# Altium schematic symbol library Erico_Ignitor.SCHLIB: 88 symbols (part 1 of 2)
Pins are listed as number, name and electrical type; pins without a type are passive.

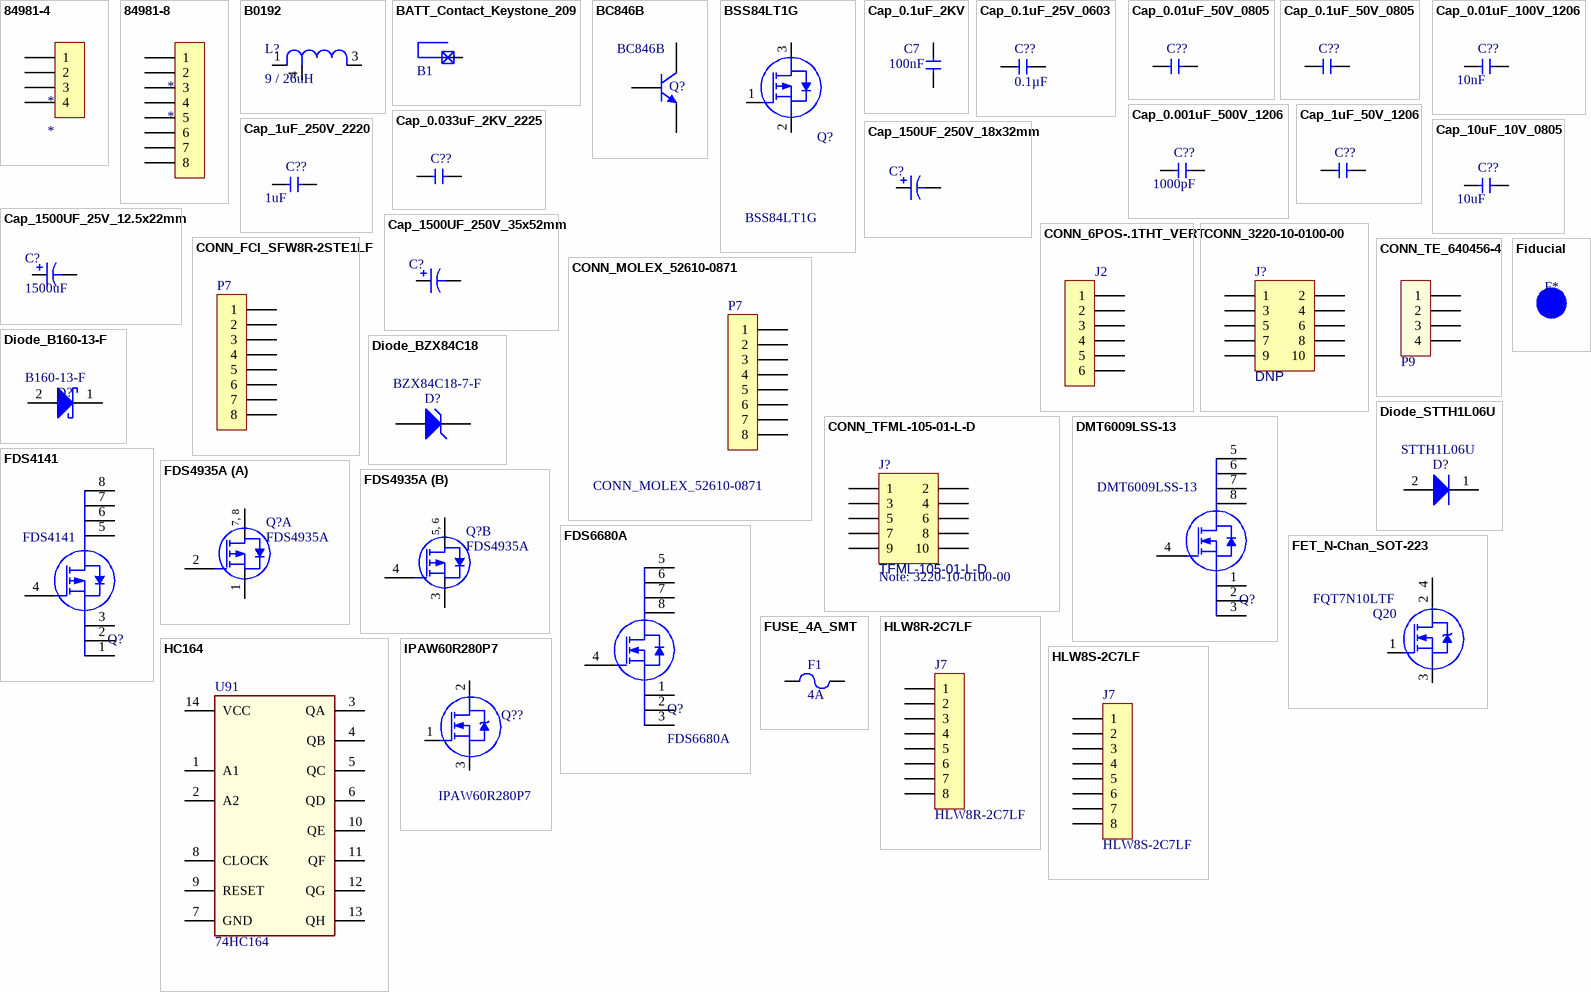
[diagram p0: symbols 84981-4 to IPAW60R280P7]

## 84981-4
designator *
footprint 84981-4
pins: 1, 2, 3, 4

## 84981-8
designator *
Supplier 1: Digi-Key; Supplier Part Number 1: A100245CT-ND
footprint 84981-8 (FFC CONN SMT, H, NON-ZIF)
pins: 1, 2, 3, 4, 5, 6, 7, 8

## B0192
designator L?, comment 9 / 26uH
INDUCTOR  9/26UH 5.3A; Manufacturer: Coilcraft; Manufacturer P/N: B0192-B; Shielding: Unshielded; Number of Pins: 4; Inductance: 9/26uh; Composition: Wirewound; RMS Current (Irms): 5.3A; ComponentLink1Description: Datasheet
footprint XFMR_Coilcraft_B0192-B (Common Mode Line Choke, 4 Pin)
pins: 1, 3, 4

## BATT_Contact_Keystone_209
designator B1, comment BATT CONTACT  (value not drawn)  (no BOM)
BATT_Contact_Keystone_209; Manufacturer: Keystone Electronics; Manufacturer P/N: 209; Body Plating: Nickel; Body Material: Steel; Voltage Rating: 0uV; Number of Batteries: 1; Insulation: Non-Insulated; Material Thickness: 0.012inch; Supplier 1: Digi-Key; Supplier Part Number 1: 36-209-ND; Mount: Snap in; Case/Package: Molded; Contact Plating: Nickel,Tin; Contact Material: Steel; Material: Brass,Steel; Package Quantity: 100; Termination: Solder; Voltage Rating (DC): 0uV; Length: 7.9mm; Height: 0.449inch; Depth: 11.4mm; Thickness: 0.012inch; REACH SVHC: No SVHC; Lead Free: Lead Free; ComponentLink2URL: http://www.keyelco.com/userAssets/file/M60-2p12.pdf; ComponentLink2Description: http://www.keyelco.com/userAssets/file/M60-2p12.pdf
footprint BATTERY CONTACT KEYSTONE 209 (BATTERY CONTACT 209)
pins: 1 Test

## BC846B
designator Q?
TRAN NPN 100MA 65V; Manufacturer: NXP Semiconductors; Vce Saturation (Max) @ Ib, Ic: 400mV @ 5mA, 100mA; DC Current Gain (hFE) (Min) @ Ic, Vce: 200 @ 2mA, 5V; Power - Max: 250mW; Frequency - Transition: 100MHz; Supplier 1: Digi-Key; Supplier Part Number 1: 568-1632-1-ND; RoHS: RoHS Compliant; Transistor Type: NPN; Current - Collector (Ic) (Max): 100mA; Voltage - Collector Emitter Breakdown (Max): 65V; Current - Collector Cutoff (Max): -; Package / Case: TO-236-3, SC-59, SOT-23-3; ComponentLink1URL: http://media.digikey.com/pdf/Data%20Sheets/NXP%20PDFs/BC846,%20BC546%20Series.pdf; ComponentLink1Description: Datasheet; Supplier 2: Digi-Key; Supplier Part Number 2: 568-1632-2-ND; Manufacturer P/N: BC846B
footprint SOT23 (SOT23, 3-Leads, Body 2.9x1.3mm, Pitch 0.95mm, Lead Span 2.5mm, IPC Med Density)
pins: 1 B, 2 E, 3 C

## BSS84LT1G
designator Q?
MOSFET P-CH 50V 130mA SOT-23; Manufacturer: ON Semiconductor; Manufacturer P/N: BSS84LT1-G; Rise Time: 1ns; Rds On Max: 10R; Input Capacitance: 30pF; Max Power Dissipation: 225mW; Turn-Off Delay Time: 16ns; Turn-On Delay Time: 3.6ns; Gate to Source Voltage (Vgs): 20V; Nominal Vgs: 2V; Threshold Voltage: -2V; Element Configuration: Single; Voltage Rating (DC): -50V; Current Rating: -130mA; Supplier 1: Digi-Key; Supplier Part Number 1: BSS84LT1GOSCT-ND; Case/Package: SOT-23-3; Number of Pins: 3; Contact Plating: Matte,Tin; Min Operating Temperature: -55°C; Max Operating Temperature: 150°C; Drain to Source Voltage (Vdss): 50V; Continuous Drain Current (ID): 130mA; Fall Time: 1ns; Power Dissipation: 225mW; Drain to Source Breakdown Voltage: 50V; Drain to Source Resistance: 10R; On-State Resistance: 10R; Radiation Hardening: No; Lead Free: Lead Free; REACH SVHC: No SVHC; Halogen Free: Halogen Free; ComponentLink3URL: http://www.onsemi.com/pub/Collateral/BSS84LT1-D.PDF; ComponentLink3Description: Datasheet
footprint SOT23 (SOT23, 3-Leads, Body 2.9x1.3mm, Pitch 0.95mm, Lead Span 2.5mm, IPC Med Density)
pins: 1, 2, 3

## Cap_0.1uF_2KV
designator C7, comment Capacitance: 100nF  (hidden comment: 0.1uF)
CAP CER 0.1UF 2KV; Manufacturer: Vishay; Manufacturer P/N: 565R20GAP10; Tolerance: 20%; Dielectric: Y5V; Lead/Base Style: Formed Leads; Lead Diameter: 0.64mm; Supplier 1: Digi-Key; Supplier Part Number 1: 565R20GAP10-ND; Mount: Through Hole; Case/Package: Radial; Contact Plating: Tin; Min Operating Temperature: -25°C; Max Operating Temperature: 105°C; Voltage Rating (DC): 2kV; Package Quantity: 50; Voltage Rating: 2kV; Termination: Radial; Composition: Ceramic; Lead Pitch: 9.5mm; Height - Seated (Max): 1.138inch; Depth: 6.1mm; Radiation Hardening: No; Lead Free: Lead Free; ComponentLink1URL: https://www.verical.com/server-webapp/html/getDatasheet?partID=324619; ComponentLink1Description: https://www.verical.com/server-webapp/html/getDatasheet?partID=324619; ComponentLink2URL: http://www.mouser.com/ds/2/427/564r565r-239688.pdf; ComponentLink2Description: http://www.mouser.com/ds/2/427/564r565r-239688.pdf
footprint CAPR9500P2413 (Capacitor, Radial, 24.13mm D, 9.5mm pin pitch)
pins: 1, 2

## Cap_0.1uF_25V_0603
designator C??, comment Capacitance: 0.1µF  (hidden comment: 0.1uF)
CAP CER 0.1UF 25V 10% X7R 0603; Manufacturer P/N: GRM188R71E104KA01D; Manufacturer: Murata Electronics North America; Supplier 1: Digi-Key; Supplier Part Number 1: 490-1524-1-ND; RoHS: RoHS Compliant; Voltage - Rated: 25V; Tolerance: ±10%; Temperature Coefficient: X7R; Operating Temperature: -55°C ~ 125°C; Package / Case: 0603 (1608 Metric); ComponentLink1URL: http://psearch.murata.com/capacitor/product/GRM188R71E104KA01#.pdf; ComponentLink1Description: Datasheet; Supplier 2: Digi-Key; Supplier Part Number 2: 490-1524-2-ND
footprint CAPC1608N (Chip Capacitor Body 1.6 x 0.8 mm (LxW typ))
pins: 1, 2

## Cap_0.01uF_50V_0805
designator C??, comment 0.01uF  (value not drawn)
CAP CER 0.01UF 50V; Manufacturer: KEMET; Manufacturer P/N: C0805C103K5RAC-TU; Dielectric Material: Ceramic; Capacitance: 10nF; Tolerance: 10%; Dielectric: X7R; Supplier 1: Digi-Key; Supplier Part Number 1: 399-1158-6-ND; Mount: PCB,Surface Mount; Case/Package: 0805; Number of Pins: 2; Case Code (Metric): 2012; Case Code (Imperial): 0805; Min Operating Temperature: -55°C; Max Operating Temperature: 125°C; Voltage Rating (DC): 50V; Voltage Rating: 50V; Package Quantity: 1; Termination: SMD/SMT; Voltage: 50V; Length: 2mm; Height: 0.78mm; Width: 0.049inch; Lead Pitch: 0.75mm; Depth: 1.25mm; Thickness: 0.035inch; Radiation Hardening: No; REACH SVHC: No SVHC; ComponentLink1URL: http://www.kemet.com/kemet/web/homepage/kechome.nsf/vapubfiles/KEM_C1002_X7R_SMD.pdf/$file/KEM_C1002_X7R_SMD.pdf; ComponentLink1Description: http://www.kemet.com/kemet/web/homepage/kechome.nsf/vapubfiles/KEM_C1002_X7R_SMD.pdf/$file/KEM_C1002_X7R_SMD.pdf
footprint CAPC2012N (Chip Capacitor, Body 2.0x1.3mm, IPC Med Density)
pins: 1, 2

## Cap_0.1uF_50V_0805
designator C??, comment 0.1uF  (value not drawn)
CAP CER 0.1UF 50V; Manufacturer: KEMET; Manufacturer P/N: C0805C104M5RACAUTO; Dielectric Material: Ceramic; Tolerance: 20%; Dielectric: X7R; Capacitance: 100nF; Supplier 1: Digi-Key; Supplier Part Number 1: 399-12977-1-ND; Mount: Surface Mount; Case/Package: 0805; Case Code (Metric): 2012; Case Code (Imperial): 0805; Contact Plating: Matte,Tin; Min Operating Temperature: -55°C; Max Operating Temperature: 125°C; Voltage Rating: 50V; Voltage Rating (DC): 50V; Termination: Wraparound; Length: 2mm; Width: 0.049inch; Thickness: 0.035inch; Depth: 1.25mm; Ratings: AEC-Q200; REACH SVHC: No SVHC
footprint CAPC2012N (Chip Capacitor, Body 2.0x1.3mm, IPC Med Density)
pins: 1, 2

## Cap_0.01uF_100V_1206
designator C??, comment 10nF
CAP CER 10NF 100V 1206; Manufacturer: Kyocera AVX; Manufacturer P/N: 12061C103K4T2A; Tolerance: 10%; Dielectric: X7R; Supplier 1: Digi-Key; Supplier Part Number 1: 478-5413-1-ND; Mount: Surface Mount; Case/Package: 1206; Number of Pins: 2; Case Code (Imperial): 1206; Case Code (Metric): 3216; Min Operating Temperature: -55°C; Max Operating Temperature: 125°C; Capacitance: 10nF; Voltage Rating (DC): 100V; Package Quantity: 1; Voltage Rating: 100V; Termination: SMD/SMT; Length: 3.2mm; Height: 0.94mm; Depth: 1.6mm; Width: 0.063inch; Thickness: 0.037inch; Ratings: AEC-Q200; Radiation Hardening: No; REACH SVHC: No SVHC; Lead Free: Lead Free; ComponentLink1URL: http://www.avx.com/docs/Catalogs/cauto.pdf?src-supplier=Avnet+Europe; ComponentLink1Description: http://www.avx.com/docs/Catalogs/cauto.pdf?src-supplier=Avnet+Europe; ComponentLink2URL: http://www.farnell.com/datasheets/1679506.pdf?src-supplier=Element14; ComponentLink2Description: http://www.farnell.com/datasheets/1679506.pdf?src-supplier=Element14; ComponentLink3URL: http://datasheets.avx.com/AutoMLCC.pdf?src-supplier=Digi-Key; ComponentLink3Description: http://datasheets.avx.com/AutoMLCC.pdf?src-supplier=Digi-Key; ComponentLink4URL: http://catalogs.avx.com/SurfaceMount.pdf?src-supplier=Digi-Key; ComponentLink4Description: http://catalogs.avx.com/SurfaceMount.pdf?src-supplier=Digi-Key; ComponentLink5URL: http://www.avx.com/docs/Catalogs/cauto.pdf?src-supplier=Avnet; ComponentLink5Description: http://www.avx.com/docs/Catalogs/cauto.pdf?src-supplier=Avnet; ComponentLink6URL: http://www.avx.com/docs/Catalogs/cauto.pdf?src-supplier=Future+Electronics; ComponentLink6Description: http://www.avx.com/docs/Catalogs/cauto.pdf?src-supplier=Future+Electronics; ComponentLink7URL: http://www.jameco.com/Jameco/Products/ProdDS/1037876.pdf?src-supplier=Jameco; ComponentLink7Description: http://www.jameco.com/Jameco/Products/ProdDS/1037876.pdf?src-supplier=Jameco; ComponentLink8URL: http://www.farnell.com/datasheets/88813.pdf?src-supplier=Element14; ComponentLink8Description: http://www.farnell.com/datasheets/88813.pdf?src-supplier=Element14
footprint CAPC3216N (Chip Capacitor, Body 3.2x1.6mm, IPC Medium Density)
pins: 1, 2

## Cap_0.001uF_500V_1206
designator C??, comment 1000pF
CAP CER 0.001UF 500V 1206; Manufacturer: KEMET; Manufacturer P/N: C1206C102KCRACTU; Dielectric Material: Ceramic; Capacitance: 1nF; Tolerance: 10%; Voltage Rating (DC): 1kV; Dielectric: X7R; Dissipation Factor: 2.5%; Supplier 1: Digi-Key; Supplier Part Number 1: 399-3436-1-ND; Mount: PCB,Surface Mount; Case/Package: 1206; Number of Pins: 2; Case Code (Metric): 3216; Case Code (Imperial): 1206; Min Operating Temperature: -55°C; Max Operating Temperature: 125°C; Package Quantity: 1; Voltage Rating: 500V; Termination: SMD/SMT; Voltage: 500V; Length: 3.2mm; Height: 1.2mm; Width: 0.063inch; Thickness: 0.069inch; Depth: 1.6mm; Radiation Hardening: No; REACH SVHC: No SVHC; ComponentLink1URL: https://api.kemet.com/component-edge/download/datasheet/C1206C102KCRACTU.pdf; ComponentLink1Description: https://api.kemet.com/component-edge/download/datasheet/C1206C102KCRACTU.pdf
footprint CAPC3216N (Chip Capacitor, Body 3.2x1.6mm, IPC Medium Density)
pins: 1, 2

## Cap_0.033uF_2KV_2225
designator C??, comment 0.033uF  (value not drawn)
CAP CER 0.033UF 2KV X7R 0603; Manufacturer: Kyocera AVX; Manufacturer P/N: 2225GC333KAT1A; Capacitance: 33nF; Tolerance: 10%; Supplier 1: Digi-Key; Supplier Part Number 1: 478-5924-1-ND; Mount: Surface Mount; Case/Package: 2225; Case Code (Metric): 5763; Case Code (Imperial): 2225; Contact Plating: Matte,Tin; Min Operating Temperature: -55°C; Max Operating Temperature: 125°C; Dielectric: X7R; Voltage Rating (DC): 2kV; Package Quantity: 500; Voltage Rating: 2kV; Termination: SMD/SMT; Length: 5.72mm; Height: 2.54mm; Depth: 6.35mm; Width: 0.25inch; Thickness: 0.1inch; Radiation Hardening: No; REACH SVHC: No SVHC; ComponentLink2URL: http://catalogs.avx.com/SurfaceMount.pdf; ComponentLink2Description: Datasheet
footprint CAPC5763N (Chip Capacitor, 2-Leads, Body 5.70x6.30mm, IPC Medium Density)
pins: 1, 2

## Cap_1uF_50V_1206
designator C??, comment 1uF  (value not drawn)
CAP CER 1UF 50V 1206; Manufacturer: TDK; Manufacturer P/N: CGA5L3X7R1H105K160AB; Tolerance: 10%; Dielectric: X7R; Supplier 1: Digi-Key; Supplier Part Number 1: 445-5702-1-ND; Mount: Surface Mount; Case/Package: 1206; Weight: 0.000571oz; Case Code (Metric): 3216; Case Code (Imperial): 1206; Min Operating Temperature: -55°C; Max Operating Temperature: 125°C; Package Quantity: 1; Capacitance: 1uF; Voltage Rating: 50V; Voltage Rating (DC): 50V; Termination: SMD/SMT; Composition: Ceramic; Length: 3.2mm; Height: 1.6mm; Width: 0.063inch; Thickness: 0.071inch; Depth: 1.6mm; Ratings: AEC-Q200; REACH SVHC: No SVHC; Lead Free: Lead Free; ComponentLink1URL: http://www.farnell.com/datasheets/1796654.pdf; ComponentLink1Description: http://www.farnell.com/datasheets/1796654.pdf; ComponentLink2URL: http://www.mouser.com/ds/2/400/lcc_automotive_general_en-843974.pdf; ComponentLink2Description: http://www.mouser.com/ds/2/400/lcc_automotive_general_en-843974.pdf
footprint CAPC3216N (Chip Capacitor, Body 3.2x1.6mm, IPC Medium Density)
pins: 1, 2

## Cap_1uF_250V_2220
designator C??, comment 1uF
CAP CER 1UF 250V X7R 2220; Manufacturer: TDK; Manufacturer P/N: C5750X7R2E105K230KA; Tolerance: 10%; Supplier 1: Digi-Key; Supplier Part Number 1: 445-2304-1-ND; Mount: Surface Mount; Case/Package: 2220; Number of Pins: 2; Weight: 0.016932oz; Case Code (Metric): 5750; Case Code (Imperial): 2220; Min Operating Temperature: -55°C; Max Operating Temperature: 125°C; Package Quantity: 1; Capacitance: 1uF; Voltage Rating: 250V; Voltage Rating (DC): 250V; Dielectric: X7R; Termination: SMD/SMT; Composition: Ceramic; Voltage: 250V; Length: 5.7mm; Height: 2.3mm; Width: 0.197inch; Thickness: 0.098inch; Depth: 5mm; Radiation Hardening: No; REACH SVHC: No SVHC; Lead Free: Lead Free; ComponentLink1URL: http://www.mouser.com/ds/2/400/lcc_commercial_highvoltage_en-520036.pdf; ComponentLink1Description: http://www.mouser.com/ds/2/400/lcc_commercial_highvoltage_en-520036.pdf; ComponentLink2URL: http://www.farnell.com/datasheets/1642577.pdf; ComponentLink2Description: http://www.farnell.com/datasheets/1642577.pdf; ComponentLink3URL: https://www.verical.com/server-webapp/html/getDatasheet?partID=726784; ComponentLink3Description: https://www.verical.com/server-webapp/html/getDatasheet?partID=726784; ComponentLink4URL: http://uk.rs-online.com/webdocs/1532/0900766b81532cd0.pdf; ComponentLink4Description: http://uk.rs-online.com/webdocs/1532/0900766b81532cd0.pdf
footprint CAPC5650N (Chip Capacitor, 2-Leads, Body 5.60x5.00mm, IPC Medium Density)
pins: 1, 2

## Cap_10uF_10V_0805
designator C??, comment 10uF
CAP CER 10uF 10V 0805; Manufacturer: TDK; Manufacturer P/N: C2012X7R1A106K125AC; Dielectric Material: Ceramic; Tolerance: 10%; Dielectric: X7R; Supplier 1: Digi-Key; Supplier Part Number 1: 445-6857-1-ND; Mount: Surface Mount; Case/Package: 0805; Number of Pins: 2; Weight: 0.000194oz; Case Code (Metric): 2012; Case Code (Imperial): 0805; Contact Plating: Matte,Tin; Min Operating Temperature: -55°C; Max Operating Temperature: 125°C; Capacitance: 10uF; Voltage Rating: 10V; Package Quantity: 1; Voltage Rating (DC): 10V; Termination: SMD/SMT; Composition: Ceramic; Voltage: 10V; Length: 2mm; Height: 1.25mm; Width: 0.049inch; Thickness: 0.057inch; Depth: 1.25mm; Radiation Hardening: No; REACH SVHC: No SVHC; Lead Free: Lead Free; ComponentLink3URL: http://product.tdk.com/capacitor/mlcc/en/documents/mlcc_commercial_general_en.pdf; ComponentLink3Description: http://product.tdk.com/capacitor/mlcc/en/documents/mlcc_commercial_general_en.pdf
footprint CAPC2012N (Chip Capacitor, Body 2.0x1.3mm, IPC Med Density)
pins: 1, 2

## Cap_150UF_250V_18x32mm
designator C?, comment 150uF  (value not drawn)
CAP 150UF 250V 18x32mm; Manufacturer: Panasonic; Manufacturer P/N: EEU-EB2E151; Tolerance: 20%; Ripple Current: 1.47A; Polarity: Polar; Leakage Current: 3uA; Life (Hours): 5000Hour; Lead Diameter: 0.8mm; Supplier 1: Digi-Key; Supplier Part Number 1: P5930-ND; Mount: PCB,Through Hole; Case/Package: Radial; Weight: 0.1lb; Min Operating Temperature: -25°C; Max Operating Temperature: 105°C; Capacitance: 150uF; Package Quantity: 50; Voltage Rating: 250V; Voltage Rating (DC): 250V; Termination: Radial; Voltage: 250V; Diameter: 18mm; Length: 31.5mm; Height: 31.5mm; Lead Pitch: 7.5mm; Width: 1.5inch; Height - Seated (Max): 1.24inch; Radiation Hardening: No; REACH SVHC: Unknown; Lead Free: Lead Free; ComponentLink3URL: http://industrial.panasonic.com/www-data/pdf/ABA0000/ABA0000CE27.pdf; ComponentLink3Description: http://industrial.panasonic.com/www-data/pdf/ABA0000/ABA0000CE27.pdf
footprint CAPPR750P1800X3150 (Capacitor, Polarized Radial, 18mm D x 31.5mm H, 3.5mm pin pitch 7.5mm)
pins: 1, 2

## Cap_1500UF_25V_12.5x22mm
designator C?, comment 1500uF
CAP 1500uF 25V 12.5x22mm; Manufacturer: Nichicon; Manufacturer P/N: UHV1E152MHD; Tolerance: 20%; Ripple Current: 2.725A; Capacitance: 1.5mF; Impedance: 16mR; Leakage Current: 375uA; Life (Hours): 6000Hour; Dissipation Factor: 0.13%; Lead Diameter: 0.6mm; Supplier 1: Digi-Key; Supplier Part Number 1: 493-15301-ND; Mount: Through Hole; Case/Package: Radial; Min Operating Temperature: -40°C; Max Operating Temperature: 105°C; Package Quantity: 100; Voltage Rating: 25V; Termination: Radial; Voltage Rating (DC): 25V; Length: 20mm; Lead Pitch: 5mm; Height - Seated (Max): 0.866inch; Radiation Hardening: No; ComponentLink1URL: http://nichicon-us.com/english/products/pdfs/e-hv.pdf; ComponentLink1Description: http://nichicon-us.com/english/products/pdfs/e-hv.pdf
footprint CAPPR500P1250X2000 (Capacitor, Polarized Radial, 12.5mm D x 22mm H, 5mm pin pitch)
pins: 1, 2

## Cap_1500UF_250V_35x52mm
designator C?, comment 1500uF  (value not drawn)
CAP 1500uF 250V 35x52mm; Manufacturer: Cornell Dubilier; Manufacturer P/N: 380LX152M250A052; Dielectric Material: Aluminium; Capacitance: 1.5mF; ESR (Equivalent Series Resistance): 133mR; Ripple Current: 4A; Tolerance: 20%; Life (Hours): 3000Hour; Supplier 1: Digi-Key; Supplier Part Number 1: 338-2245-ND; Mount: Through Hole; Case/Package: Radial; Number of Pins: 2; Weight: 2.610273oz; Min Operating Temperature: -40°C; Max Operating Temperature: 85°C; Package Quantity: 80; Voltage Rating: 250V; Voltage Rating (DC): 250V; Termination: Snap in; Diameter: 35mm; Length: 50mm; Height: 50mm; Lead Pitch: 10mm; Height - Seated (Max): 2.047inch; REACH SVHC: No SVHC; Lead Free: Lead Free; ComponentLink2URL: http://www.cde.com/catalogs/380-382.pdf; ComponentLink2Description: http://www.cde.com/catalogs/380-382.pdf
footprint CAPPR1000P3500X5000 (Capacitor, Polarized Radial, 35mm D x 50mm H, 10mm pin pitch)
pins: 1, 2

## CONN_6POS-.1THT_VERT
designator J2  (value not drawn)
Header 6POS 0.1 Pitch THT; Manufacturer: Wurth Electronics; Manufacturer P/N: 61300611121; Current Rating: 3A; Voltage Rating: 250V; Number of Positions: 6; Gender: Male; Connector Type: Male Pin; Pitch: 0.1inch; Supplier 1: Digi-Key; Supplier Part Number 1: 732-5319-ND; Mount: Through Hole; Contact Plating: Gold; Contact Material: Copper,Copper Alloy; Housing Material: PBT; Colour: Black; Min Operating Temperature: -40°C; Max Operating Temperature: 125°C; Number of Rows: 1; Contact Gender: Male; Termination: Through Hole; Number of Contacts: 6; Contact Mating Length: 0.236inch; REACH SVHC: Unknown; Lead Free: Lead Free
footprint CONN_WURTH_61300611121 (Connector, 6-pin, 0.1")
pins: 1, 2, 3, 4, 5, 6

## CONN_3220-10-0100-00
designator J?, comment DNP
CONN HEADER .050 2X5 POS; Manufacturer: Samtec; Manufacturer P/N: TFML-105-01-L-D; Number of Contacts: 10; Gender: Male; Pitch: 1.27mm; Connector Type: Male Pin; Row Spacing: 0.05inch; Mount: Through Hole; Contact Plating: Gold; Number of Rows: 2; Termination: Solder; Supplier 1: Digi-Key; Supplier Part Number 1: 1175-1627-ND; Package Quantity: 3200; Number of Positions: 10; ComponentLink1URL: http://cnctech.us/pdfs/3220-XX-0100-00.pdf?src-supplier=Digi-Key; ComponentLink1Description: http://cnctech.us/pdfs/3220-XX-0100-00.pdf?src-supplier=Digi-Key
footprint CONN_CNC_TECH_3220-10-0100-00 (CONN HEADER .050 2X5 POS)
pins: 1, 2, 3, 4, 5, 6, 7, 8, 9, 10

## CONN_FCI_SFW8R-2STE1LF
designator P7, comment CONN_8POS-1mm_SMT  (value not drawn)
CONN_8POS 0.1 Pitch THT; Manufacturer: Amphenol FCI; Manufacturer P/N: SFW8R-2STE1LF; Actuator Material: Glass,Polyphenylene; Contact Resistance: 30mR; Current Rating: 1A; Voltage Rating: 100V; Number of Positions: 8; Contact Location: Top; Insulation Resistance: 500MR; Gender: Receptacle; Wire/Cable Type: Straight; Pitch: 1mm; Supplier 1: Digi-Key; Supplier Part Number 1: 609-1894-1-ND; Mount: Surface Mount; Contact Material: Bronze; Contact Plating: Tin; Housing Color: Brown; Housing Material: Polyphenylene; Min Operating Temperature: -55°C; Max Operating Temperature: 105°C; Number of Rows: 1; Package Quantity: 2000; Voltage Rating (AC): 100V; Termination: Solder; Max Voltage Rating (AC): 100V; Max Voltage Rating (DC): 100V; Number of Contacts: 8; Orientation: Right Angle; Length: 13.8mm; Depth: 6mm; Width: 5.5mm; Radiation Hardening: No; REACH SVHC: No SVHC; Lead Free: Lead Free; Flammability Rating: UL94 V-0; ComponentLink4URL: http://portal.fciconnect.com/Comergent//fci/drawing/sfw12lf.pdf; ComponentLink4Description: http://portal.fciconnect.com/Comergent//fci/drawing/sfw12lf.pdf
footprint CONN_FCI_SFW8R-2STE1LF (CONN 8 POS FPC 1.0mm RA)
pins: 1, 2, 3, 4, 5, 6, 7, 8

## CONN_MOLEX_52610-0871
designator P7
CONN FFC/FPC 8POS 1MM VERT; Manufacturer: Molex Inc; FFC, FCB Thickness: 0.30mm; Cable End Type: Straight; Locking Feature: Slide Lock; Current Rating: 1.00A; Voltage Rating: 125V; Manufacturer P/N: 52610-0871; Supplier 1: Digi-Key; Supplier Part Number 1: WM7634CT-ND; RoHS: RoHS Compliant; Height Above Board: 0.226" (5.74mm); Features: Zero Insertion Force (ZIF); Housing Material: Polyamide (PA46), Nylon 4/6; ComponentLink1URL: http://www.molex.com/pdm_docs/sd/526100871_sd.pdf; ComponentLink1Description: Datasheet; Supplier 2: Digi-Key; Supplier Part Number 2: WM7634TR-ND
footprint CONN_MOLEX_52610-0871 (CONN 8 POS 1.0mm FPC VER MOLEX 52610-0871)
pins: 1, 2, 3, 4, 5, 6, 7, 8

## CONN_TE_640456-4
designator P9  (value not drawn)
CONN HEADER VERT 4POS .100 TIN; Manufacturer: TE Connectivity; Connector Type: Header, Unshrouded; Manufacturer P/N: 640456-4; Supplier 1: Digi-Key; Supplier Part Number 1: A1922-ND; RoHS: RoHS Compliant; Contact Type: Male Pin; Contact Mating Length: 0.295" (7.49mm); Termination: Solder; Fastening Type: Friction Lock; ComponentLink1URL: http://www.te.com/commerce/DocumentDelivery/DDEController?Action=srchrtrv&DocNm=640456&DocType=Customer+Drawing&DocLang=English; ComponentLink1Description: Datasheet
footprint CONN_TE_640456-4 (CONN HEADER VERT 4POS .100 TIN)
pins: 1, 2, 3, 4

## CONN_TFML-105-01-L-D
designator J?, comment TFML-105-01-L-D
CONN HEADER .050 2X5 POS; Manufacturer: Samtec; Number of Contacts: 10; Gender: Male; Pitch: 1.27mm; Supplier 1: Digi-Key; Supplier Part Number 1: SAM12117-ND; Manufacturer P/N: TFML-105-01-L-D; Mount: Through Hole; Contact Plating: Gold; Number of Rows: 2; Termination: Solder
footprint CONN_SAMTEC_TFML-105-01-L-D (CONN HEADER 10POS 0.050")
pins: 1, 2, 3, 4, 5, 6, 7, 8, 9, 10
text: Note: 3220-10-0100-00

## Diode_B160-13-F
designator D?, comment Manufacturer_P/N: B160-13-F  (hidden comment: Diode)
DIODE SCHOTTKY 60V 1A SMA; Manufacturer: Diodes; Peak Reverse Current: 500uA; Peak Non-Repetitive Surge Current: 30A; Element Configuration: Single; Forward Voltage: 700mV; Polarity: Standard; Capacitance: 110pF; Supplier 1: Digi-Key; Supplier Part Number 1: B160-FDICT-ND; Mount: Surface Mount; Case/Package: SMA; Weight: 0.002258oz; Contact Plating: Matte,Tin; Min Operating Temperature: -65°C; Max Operating Temperature: 150°C; Forward Current: 1A; Max Repetitive Reverse Voltage (Vrrm): 60V; Package Quantity: 5000; Average Rectified Current: 1A; Max Forward Surge Current (Ifsm): 30A; Termination: SMD/SMT; Voltage Rating (DC): 60V; Current Rating: 1A; Output Current: 1A; Max Reverse Voltage (DC): 60V; Length: 4.6mm; Height: 2.1mm; Width: 2.92mm; Radiation Hardening: No; REACH SVHC: No SVHC; Lead Free: Lead Free; ComponentLink1URL: https://www.diodes.com/assets/Datasheets/ds13002.pdf; ComponentLink1Description: Datasheet
footprint SMA (Diode, DO-214AC, SMA, 2.92mm x 4.57mm x 2.41mm)
pins: 1 K, 2 A

## Diode_BZX84C18
designator D?, comment Manufacturer P/N: BZX84C18-7-F  (hidden comment: Diode, Zener, BZX84C18)
DIODE ZENER 18V 300mW SOT23; Manufacturer: Diodes; Max Power Dissipation: 350mW; Max Reverse Leakage Current: 100nA; Tolerance: 6%; Zener Current: 5mA; Output Current: 18mA; Supplier 1: Digi-Key; Supplier Part Number 1: BZX84C18-FDICT-ND; Case/Package: SOT-23; Number of Pins: 3; Min Operating Temperature: -65°C; Max Operating Temperature: 150°C; Zener Voltage: 18V; Voltage Tolerance: 6%; Working Voltage: 18V; Peak Reverse Current: 100nA; Test Current: 5mA; Power Rating: 350mW; Voltage Rating (DC): 18V; Lead Free: Lead Free; ComponentLink1Description: https://www.diodes.com/assets/Datasheets/ds18001.pdf
footprint SOT23 (SOT23, 3-Leads, Body 2.9x1.3mm, Pitch 0.95mm, Lead Span 2.5mm, IPC Med Density)
pins: 1 A, 3 K

## Diode_STTH1L06U
designator D?, comment Manufacturer P/N: STTH1L06U  (hidden comment: Diode)
DIODE GEN PURP 600V 1A SMB; Manufacturer: STMicroelectronics; Max Surge Current: 20A; Forward Voltage: 1.3V; Peak Reverse Current: 1uA; Recovery Time: 80ns; Element Configuration: Single; Polarity: Standard; Supplier 1: Digi-Key; Supplier Part Number 1: 497-3766-1-ND; Mount: Surface Mount; Case/Package: SMB; Number of Pins: 2; Min Operating Temperature: -65°C; Max Operating Temperature: 175°C; Forward Current: 1A; Package Quantity: 1; Average Rectified Current: 1A; Reverse Recovery Time: 80ns; Max Repetitive Reverse Voltage (Vrrm): 600V; Peak Non-Repetitive Surge Current: 20A; Max Forward Surge Current (Ifsm): 20A; Voltage Rating (DC): 600V; Output Current: 1A; Current Rating: 1A; Reverse Voltage: 600V; Max Reverse Voltage (DC): 600V; Length: 4.6mm; Height: 2.45mm; Width: 3.95mm; Radiation Hardening: No; REACH SVHC: No SVHC; Lead Free: Lead Free; ComponentLink2URL: http://www.st.com/content/ccc/resource/technical/document/datasheet/e9/c2/09/e3/32/47/44/bd/CD00002694.pdf/files/CD00002694.pdf/jcr:content/translations/en.CD00002694.pdf; ComponentLink2Description: Datasheet
footprint SMB/DO214AA (Diode, SMB)
pins: 1 K, 2 A

## DMT6009LSS-13
designator Q?
MOSFET N-CH 30V 12.5A 8-SOIC; Manufacturer: Diodes; Drain to Source Voltage (Vdss): 60V; Continuous Drain Current (ID): 10.8A; Rds On Max: 9.5mR; Input Capacitance: 1.925nF; Max Power Dissipation: 1.25W; Supplier 1: Digi-Key; Supplier Part Number 1: DMT6009LSS-13DICT-ND; Mount: Surface Mount; Case/Package: SOIC; Number of Pins: 8; Min Operating Temperature: -55°C; Max Operating Temperature: 150°C; Manufacturer P/N: DMT6009LSS-13
footprint SOIC127P600X175-8N (SOIC, 8-Leads, Body 4.9x3.9mm, Pitch 1.27mm, IPC Medium Density)
pins: 1 S, 2 S, 3 S, 4 G, 5 D, 6 D, 7 D, 8 D

## FDS4141
designator Q?
MOSFET P-CH 40V 10.8A 8-SOIC; Manufacturer: Fairchild Semiconductor; FET Type: MOSFET P-Channel, Metal Oxide; FET Feature: Logic Level Gate; Rds On (Max) @ Id, Vgs: 13 mOhm @ 10.5A, 10V; Vgs(th) (Max) @ Id: 3V @ 250µA; Gate Charge (Qg) @ Vgs: 49nC @ 10V; Input Capacitance (Ciss) @ Vds: 2670pF @ 20V; Power - Max: 2.5W; Supplier 1: Digi-Key; Supplier Part Number 1: FDS4141CT-ND; RoHS: RoHS Compliant; Drain to Source Voltage (Vdss): 40V; Current - Continuous Drain (Id) @ 25° C: 10.8A; Package / Case: 8-SOIC (0.154", 3.90mm Width); ComponentLink1URL: http://www.fairchildsemi.com/ds/FD/FDS4141.pdf; ComponentLink1Description: Datasheet; Supplier 2: Digi-Key; Supplier Part Number 2: FDS4141TR-ND; Manufacturer P/N: FDS4141
footprint SOIC127P600X175-8N (SOIC, 8-Leads, Body 4.9x3.9mm, Pitch 1.27mm, IPC Medium Density)
pins: 1 S, 2 S, 3 S, 4 G, 5 D, 6 D, 7 D, 8 D

## FDS4935A
designator Q?
MOSFET P-CH 30V 7A 8-Pin SOIC; Manufacturer: ON Semiconductor / Fairchild; Rise Time: 10ns; Drain to Source Resistance: 23mR; Power Dissipation: 2W; Drain to Source Breakdown Voltage: -30V; Gate to Source Voltage (Vgs): 20V; Input Capacitance: 1.233nF; Fall Time: 25ns; Turn-Off Delay Time: 48ns; Number of Elements: 2; Max Power Dissipation: 900mW; Threshold Voltage: -1.6V; Turn-On Delay Time: 13ns; Current Rating: -7A; Element Configuration: Dual; Supplier 1: Digi-Key; Supplier Part Number 1: FDS4935ACT-ND; Manufacturer P/N: FDS4935A; Mount: Surface Mount; Case/Package: SOIC; Number of Pins: 8; Contact Plating: Matte,Tin; Min Operating Temperature: -55°C; Max Operating Temperature: 175°C; Continuous Drain Current (ID): 7A; Drain to Source Voltage (Vdss): 30V; Package Quantity: 2500; Rds On Max: 23mR; Voltage Rating (DC): -30V; On-State Resistance: 23MR; Nominal Vgs: -1.6V; Dual Supply Voltage: -30V; Termination: SMD/SMT; Current: 7A; Voltage: 30V; Length: 5mm; Height: 1.5mm; Width: 4mm; Radiation Hardening: No; REACH SVHC: No SVHC; Lead Free: Lead Free; ComponentLink2URL: http://www.fairchildsemi.com/datasheets/FD/FDS4935A.pdf; ComponentLink2Description: http://www.fairchildsemi.com/datasheets/FD/FDS4935A.pdf
footprint SOIC127P600X175-8N (SOIC, 8-Leads, Body 4.9x3.9mm, Pitch 1.27mm, IPC Medium Density)
part A pins: 1 S, 2 G, 7 D, 8 D
part B pins: 3 S, 4 G, 5 D, 6 D
part A text: 7, 8
part B text: 5, 6

## FDS6680A
designator Q?
MOSFET N-CH 30V 12.5A 8-SOIC; Manufacturer: Fairchild Semiconductor; FET Type: MOSFET N-Channel, Metal Oxide; FET Feature: Logic Level Gate; Rds On (Max) @ Id, Vgs: 9.5 mOhm @ 12.5A, 10V; Vgs(th) (Max) @ Id: 3V @ 250µA; Gate Charge (Qg) @ Vgs: 23nC @ 5V; Input Capacitance (Ciss) @ Vds: 1620pF @ 15V; Power - Max: 1W; Manufacturer P/N: FDS6680A; Supplier 1: Digi-Key; Supplier Part Number 1: FDS6680ACT-ND; RoHS: RoHS Compliant; Drain to Source Voltage (Vdss): 30V; Current - Continuous Drain (Id) @ 25° C: 12.5A; Package / Case: 8-SOIC (0.154", 3.90mm Width); ComponentLink1URL: http://www.fairchildsemi.com/ds/FD/FDS6680A.pdf; ComponentLink1Description: Datasheet; Supplier 2: Digi-Key; Supplier Part Number 2: FDS6680ATR-ND
footprint SOIC127P600X175-8N (SOIC, 8-Leads, Body 4.9x3.9mm, Pitch 1.27mm, IPC Medium Density)
pins: 1 S, 2 S, 3 S, 4 G, 5 D, 6 D, 7 D, 8 D

## FET_N-Chan_SOT-223
designator Q20, comment FQT7N10LTF
MOSFET N-CH 30V 0.8A SOT416; Manufacturer: ON Semiconductor / Fairchild; Rds On Max: 350mR; Input Capacitance: 290pF; Rise Time: 100ns; Number of Elements: 1; Max Power Dissipation: 2W; Drain to Source Voltage (Vdss): 100V; Continuous Drain Current (ID): 1.7A; Fall Time: 50ns; Turn-Off Delay Time: 17ns; Turn-On Delay Time: 9ns; Threshold Voltage: 2V; Element Configuration: Single; Gate to Source Voltage (Vgs): 20V; Supplier 1: Digi-Key; Supplier Part Number 1: FQT7N10LTFDKR-ND; Manufacturer P/N: FQT7N10LTF; Mount: Surface Mount; Case/Package: SOT-223; Number of Pins: 3; Weight: 0.188g; Contact Plating: Matte,Tin; Min Operating Temperature: -55°C; Max Operating Temperature: 150°C; Package Quantity: 4000; Drain to Source Breakdown Voltage: 100V; Drain to Source Resistance: 350mR; Power Dissipation: 2W; Voltage Rating (DC): 100V; Current Rating: 1.7A; On-State Resistance: 350mR; Length: 6.5mm; Height: 1.6mm; Width: 3.56mm; Radiation Hardening: No; REACH SVHC: No SVHC; Lead Free: Lead Free; ComponentLink1URL: https://www.fairchildsemi.com/datasheets/FQ/FQT7N10L.pdf; ComponentLink1Description: https://www.fairchildsemi.com/datasheets/FQ/FQT7N10L.pdf; ComponentLink2URL: https://www.fairchildsemi.com/package-drawings/MA/MA04A.pdf; ComponentLink2Description: https://www.fairchildsemi.com/package-drawings/MA/MA04A.pdf; ComponentLink3URL: https://www.verical.com/server-webapp/html/getDatasheet?partID=60091; ComponentLink3Description: https://www.verical.com/server-webapp/html/getDatasheet?partID=60091; ComponentLink4URL: http://www.mouser.com/ds/2/149/FQT7N10L-244343.pdf; ComponentLink4Description: http://www.mouser.com/ds/2/149/FQT7N10L-244343.pdf; ComponentLink5URL: http://www.jameco.com/Jameco/Products/ProdDS/933775.pdf; ComponentLink5Description: http://www.jameco.com/Jameco/Products/ProdDS/933775.pdf; ComponentLink6URL: http://datasheet.iiic.cc/fairchild/FQT7N10LTF.pdf; ComponentLink6Description: http://datasheet.iiic.cc/fairchild/FQT7N10LTF.pdf
footprint SOT223-4N (SOT223/SC73, 4-Leads, Body 6.5x3.5mm, Pitch 2.3mm, Lead Span 7mm, IPC Medium Density)
pins: 1 G, 2 D, 3 S, 4 D

## Fiducial
designator F*
Fiducial

## FUSE_4A_SMT
designator F1, comment 4A
FUSE 4A 125V SLOW; Manufacturer: Bel; Manufacturer P/N: SST4; DC Cold Resistance: 24mR; Fuse Type: Board Mount (Cartridge Style Excluded); Approvals: CSA,CE,cULus; Supplier 1: Digi-Key; Supplier Part Number 1: 507-1070-1-ND; Mount: Surface Mount; Case/Package: SMD/SMT; Number of Pins: 2; Min Operating Temperature: -55°C; Max Operating Temperature: 125°C; Current Rating: 4A; Voltage Rating (AC): 125V; Voltage Rating (DC): 125V; Length: 0.24inch; Height: 0.1inch; Width: 0.1inch; Lead Free: Lead Free; ComponentLink1URL: https://belfuse.com/resources/StewartConnector/SST.pdf?src-supplier=Digi-Key; ComponentLink1Description: https://belfuse.com/resources/StewartConnector/SST.pdf?src-supplier=Digi-Key
footprint FUSE_6125N (FUSE BRD MNT 4A 125V)
pins: 1, 2

## HC164
designator U91, comment 74HC164
HC164
footprint SOIC127P600X175-14N (SOIC, 1.27mm pitch, 14P, 3.9mm x 8.69mm, IPC Nominal)
pins: 1 A1, 2 A2, 3 QA, 4 QB, 5 QC, 6 QD, 7 GND, 8 CLOCK, 9 RESET, 10 QE, 11 QF, 12 QG, 13 QH, 14 VCC

## HLW8R-2C7LF
designator J7
CONN FFC/FPC 8POS 1MM RT; Manufacturer: Amphenol FCI; Voltage Rating (AC): 100V; Current Rating: 1A; Contact Resistance: 30mR; Number of Positions: 8; Contact Location: Top; Insulation Resistance: 500MR; Gender: Receptacle; Wire/Cable Type: Straight; Supplier 1: Digi-Key; Supplier Part Number 1: 609-1820-ND; Manufacturer P/N: HLW8R-2C7LF; Mount: Through Hole; Contact Material: Bronze; Contact Plating: Tin; Housing Color: Black; Housing Material: Polybutylene; Min Operating Temperature: -55°C; Max Operating Temperature: 85°C; Package Quantity: 250; Voltage Rating: 100V; Number of Rows: 1; Termination: Through Hole; Number of Contacts: 8; Max Voltage Rating (AC): 100V; Max Voltage Rating (DC): 100V; Orientation: Right Angle; Length: 10.6mm; Pitch: 1mm; Depth: 5.9mm; Width: 5.9mm; Radiation Hardening: No; REACH SVHC: No SVHC; Lead Free: Lead Free; Flammability Rating: UL94 V-0; ComponentLink1URL: http://portal.fciconnect.com/Comergent//fci/drawing/hlw01lf.pdf?src-supplier=Digi-Key; ComponentLink1Description: http://portal.fciconnect.com/Comergent//fci/drawing/hlw01lf.pdf?src-supplier=Digi-Key
footprint CONN_FCI_HLW8R-2C7LF (CONN FFC FPC TOP R/A 8POS 1MM PCB)
pins: 1, 2, 3, 4, 5, 6, 7, 8

## HLW8S-2C7LF
designator J7
CONN FFC/FPC 8POS 1MM VERT; Manufacturer: Amphenol FCI; Contact Resistance: 30mR; Current Rating: 1A; Voltage Rating: 100V; Number of Positions: 8; Contact Location: Top; Insulation Resistance: 500MR; Gender: Receptacle; Wire/Cable Type: Straight; Supplier 1: Digi-Key; Supplier Part Number 1: 609-1821-ND; Manufacturer P/N: HLW8S-2C7LF; Mount: Through Hole; Contact Material: Bronze; Contact Plating: Tin; Housing Colour: Black; Housing Material: Polybutylene; Min Operating Temperature: -55°C; Max Operating Temperature: 85°C; Number of Rows: 1; Package Quantity: 250; Voltage Rating (AC): 100V; Termination: Solder; Max Voltage Rating (AC): 100V; Number of Contacts: 8; Max Voltage Rating (DC): 100V; Orientation: Straight; Length: 10.6mm; Pitch: 1mm; Depth: 3.9mm; Width: 3.9mm; Radiation Hardening: No; REACH SVHC: No SVHC; Lead Free: Lead Free; Flammability Rating: UL94 V-0; ComponentLink1URL: https://cdn.amphenol-icc.com/media/wysiwyg/files/drawing/hlw01lf.pdf; ComponentLink1Description: https://cdn.amphenol-icc.com/media/wysiwyg/files/drawing/hlw01lf.pdf; ComponentLink2URL: http://portal.fciconnect.com/Comergent/fci/drawing/hlw01lf.pdf; ComponentLink2Description: http://portal.fciconnect.com/Comergent/fci/drawing/hlw01lf.pdf
footprint CONN_FCI_HLW8S-2C7LF (CONN FFC FPC VERT 8POS 1MM PCB)
pins: 1, 2, 3, 4, 5, 6, 7, 8

## IPAW60R280P7
designator Q??
MOSFET N-CH 600V 12A TO-220; Manufacturer: Infineon; Manufacturer P/N: IPAW60R280P7SXKSA1; Supplier 1: Digikey; Supplier Part Number 1: IPAW60R280P7SXKSA1-ND; ComponentLink1URL: http://datasheet.octopart.com/IPAW60R280P7SXKSA1-Infineon-datasheet-96911162.pdf; ComponentLink1Description: http://datasheet.octopart.com/IPAW60R280P7SXKSA1-Infineon-datasheet-96911162.pdf
footprint TO-220_WB (TO-220, Vert, Wide Body)
pins: 1 G, 2 D, 3 S

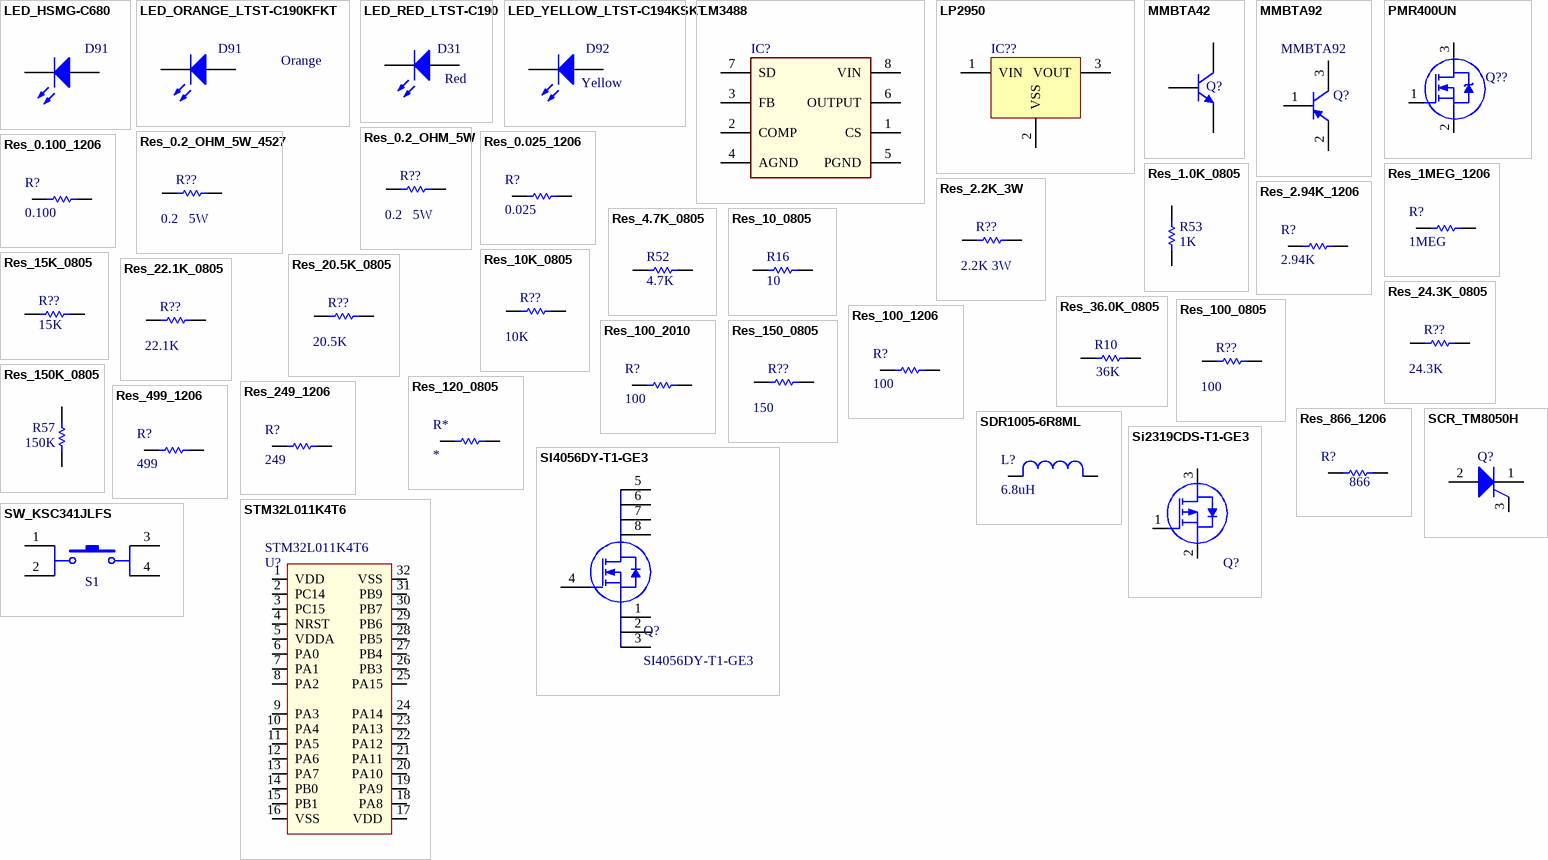
[diagram p1: symbols LED_HSMG-C680 to SW_KSC341JLFS]

## LED_HSMG-C680
designator D91  (value not drawn)
LED CHIP GAP GREEN RA SMD; Manufacturer: Avago Technologies US Inc.; Millicandela Rating: 13.3mcd; Voltage - Forward (Vf) Typ: 2.2V; Current - Test: 20mA; Wavelength - Dominant: 573nm; Wavelength - Peak: 568nm; Viewing Angle: 125°; Lens Type: Clear; Lens Style/Size: Round with Domed Top, 2mm; Supplier 1: Digi-Key; Supplier Part Number 1: 516-1726-1-ND; RoHS: RoHS Compliant; Package / Case: 1208 (3020 Metric); Luminous Flux @ Current - Test: -; ComponentLink1URL: http://media.digikey.com/pdf/Data%20Sheets/Avago%20PDFs/HSMx-C680.pdf; ComponentLink1Description: Datasheet; Supplier 2: Digi-Key; Supplier Part Number 2: 516-1726-2-ND; Manufacturer P/N: HSMG-C680; Color: Green
footprint LED_Avago_HSMG-C680 (LED CHIP GAP GREEN RA SMD)
pins: 1, 2

## LED_ORANGE_LTST-C190KFKT
designator D91, comment Color: Orange  (hidden comment: LED_ORANGE_0603)
LED ORANGE 0603 SMD; Manufacturer: Vishay Lite-On; Manufacturer P/N: LTST-C190KFKT; Lens Color: Clear,Colorless; Power Rating: 75mW; Luminous Intensity: 90mcd; Viewing Angle: 130°; Forward Current: 30mA; Forward Voltage: 2V; Lens Style: Clear,Colorless,Diffused,Rectangular; Dominant Wavelength: 605nm; Test Current: 20mA; Lens Transparency: Clear; Number of Elements: 1; Wavelength: 611nm; Reverse Voltage: 5V; Supplier 1: Digi-Key; Supplier Part Number 1: 160-1434-2-ND; Mount: Surface Mount; Case/Package: 0603; Number of Pins: 2; Case Code (Metric): 1608; Case Code (Imperial): 0603; Min Operating Temperature: -55°C; Max Operating Temperature: 85°C; Package Quantity: 1; Illumination Color: Orange; Power Dissipation: 75mW; Number of LEDs: 1; Length: 3.2mm; Height: 0.8mm; Width: 0.8mm; Depth: 1.6mm; Radiation Hardening: No; Lead Free: Lead Free; ComponentLink3URL: http://optoelectronics.liteon.com/upload/download/DS-22-99-0186/LTST-C190KFKT.PDF; ComponentLink3Description: http://optoelectronics.liteon.com/upload/download/DS-22-99-0186/LTST-C190KFKT.PDF
footprint LED_LTST-C190KFKT (Chip LED, Orange, Body 1.6x0.8mm, IPC Medium Density)
pins: 1, 2

## LED_RED_LTST-C190
designator D31, comment Color: Red  (hidden comment: LED_RED_0603)
LED RED 0603 SMD; Manufacturer: Vishay Lite-On; Manufacturer P/N: LTST-C190KRKT; Lens Color: Clear,Colorless; Luminous Intensity: 54mcd; Forward Current: 30mA; Viewing Angle: 130°; Forward Voltage: 2.4V; Lens Style: Clear,Colorless,Diffused,Rectangular; Power Rating: 75mW; Dominant Wavelength: 631nm; Test Current: 20mA; Lens Transparency: Clear; Number of Elements: 1; Wavelength: 639nm; Reverse Voltage: 5V; Supplier 1: Digi-Key; Supplier Part Number 1: 160-1436-1-ND; Mount: Surface Mount; Case/Package: 0603; Number of Pins: 2; Case Code (Metric): 1608; Case Code (Imperial): 0603; Min Operating Temperature: -55°C; Max Operating Temperature: 85°C; Package Quantity: 1; Illumination Color: Red; Power Dissipation: 75mW; Number of LEDs: 1; Length: 1.6mm; Height: 0.8mm; Width: 0.8mm; Depth: 0.8mm; Radiation Hardening: No; Lead Free: Lead Free; ComponentLink3URL: http://optoelectronics.liteon.com/upload/download/DS-22-99-0151/LTST-C190KRKT.pdf; ComponentLink3Description: http://optoelectronics.liteon.com/upload/download/DS-22-99-0151/LTST-C190KRKT.pdf
footprint LED_LTST-C190KRKT (Chip LED, Red, Body 1.6x0.8mm, IPC Medium Density)
pins: 1, 2

## LED_YELLOW_LTST-C194KSKT
designator D92  Color: Yellow  (hidden comment: LED_YELLOW_LTST-C194KSKT)
LED YELLOW 0603 SMD; Manufacturer: Vishay Lite-On; Lens Color: Colorless; Forward Current: 5mA; Forward Voltage: 2V; Power Rating: 75mW; Luminous Intensity: 104mcd; Viewing Angle: 130°; Lens Style: Colorless,Diffused,Rectangular; Lens Transparency: Clear; Test Current: 20mA; Dominant Wavelength: 592nm; Number of LEDs: 1; Supplier 1: Digi-Key; Supplier Part Number 1: 160-1836-1-ND; Manufacturer P/N: LTST-C194KSKT; Mount: Surface Mount; Case/Package: 0603; Number of Pins: 2; Case Code (Metric): 1608; Case Code (Imperial): 0603; Min Operating Temperature: -30°C; Max Operating Temperature: 85°C; Illumination Color: Yellow; Package Quantity: 3000; Length: 1.6mm; Height: 0.35mm; Width: 0.8mm; Radiation Hardening: No; ComponentLink1URL: http://optoelectronics.liteon.com/upload/download/DS22-2006-114/LTST-C194KSKT.PDF; ComponentLink1Description: http://optoelectronics.liteon.com/upload/download/DS22-2006-114/LTST-C194KSKT.PDF
footprint LED_LTST-C194KSKT (Chip LED, Yellow, Body 1.6x0.8mm, IPC Medium Density)
pins: 1, 2

## LM3488
designator IC?  (value not drawn)
IC REG CTRLR BST FLYBK PWM; Manufacturer: Texas Instruments; Manufacturer P/N: LM3488MM/NOPB; Frequency: 400kHz; Output Voltage: 300V; Output Current: 1A; Number of Outputs: 1; Min Supply Voltage: 2.97V; Max Supply Voltage: 40V; Switching Frequency: 1MHz; Max Duty Cycle: 100%; Max Output Voltage: 5V; Quiescent Current: 2.7mA; Topology: Boost,Flyback,SEPIC; Output Type: Adjustable; Supplier 1: Digi-Key; Supplier Part Number 1: LM3488MM/NOPBCT-ND; Mount: Surface Mount; Case/Package: MSOP; Number of Pins: 8; Contact Plating: Matte,Tin; Min Operating Temperature: -40°C; Max Operating Temperature: 125°C; Package Quantity: 1000; Max Output Current: 1A; Max Input Voltage: 40V; Min Input Voltage: 2.97V; Termination: SMD/SMT; Max Frequency: 1MHz; Duty Cycle: 100%; Length: 3mm; Height: 0.86mm; Width: 3mm; Radiation Hardening: No; REACH SVHC: No SVHC; Lead Free: Lead Free; ComponentLink6URL: http://www.ti.com/general/docs/lit/getliterature.tsp?genericPartNumber=LM3488&&fileType=pdf; ComponentLink6Description: http://www.ti.com/general/docs/lit/getliterature.tsp?genericPartNumber=LM3488&&fileType=pdf
footprint SOP65P490X109-8N (SOP, 0.65P, 8P, 3.00mm x 3.00mm, IPC Nominal)
pins: 1 CS, 2 COMP, 3 FB, 4 AGND, 5 PGND, 6 OUTPUT, 7 SD, 8 VIN

## LP2950
designator IC??  (value not drawn)
Voltage Regulator; Manufacturer: ON Semiconductor; Manufacturer P/N: LP2950ACDT-3.3RG; Dropout Voltage: 350mV; Max Input Voltage: 30V; Output Voltage: 3.3V; Output Current: 100mA; Number of Outputs: 1; Input Bias Current: 75uA; Reference Voltage: 1.25V; Polarity: Positive; Accuracy: 0.5%; Output Type: Fixed; Supplier 1: Digi-Key; Supplier Part Number 1: LP2950ACDT-3.3RGOSCT-ND; Mount: Surface Mount; Case/Package: DPAK; Number of Pins: 3; Contact Plating: Matte,Tin; Min Operating Temperature: -40°C; Max Operating Temperature: 125°C; Package Quantity: 1; Max Output Current: 100mA; Number of Regulators: 1; Quiescent Current: 75uA; Nominal Output Voltage: 3.3V; Output Voltage Accuracy: 0.5%; Length: 6.73mm; Height: 2.38mm; Width: 6.22mm; Radiation Hardening: No; REACH SVHC: No SVHC; Lead Free: Lead Free; Halogen Free: Halogen Free; ComponentLink1URL: http://www.onsemi.com/pub/Collateral/LP2950-D.PDF; ComponentLink1Description: http://www.onsemi.com/pub/Collateral/LP2950-D.PDF; ComponentLink2URL: http://www.onsemi.jp/pub/Collateral/LP2950-D.PDF; ComponentLink2Description: http://www.onsemi.jp/pub/Collateral/LP2950-D.PDF
footprint DPAK-369C (D-PAK, 4-Leads, Body 6.1x6.5mm, Pitch 2.28mm, Lead Span 9.7mm, IPC High Density (TO-252-3, DPak (2 Leads + Tab), SC-63, DPAK-3))
pins: 1 VIN, 2 VSS (power), 3 VOUT (power)

## MMBTA42
designator Q?  (value not drawn)
TRAN NPN 500MA 300V; Manufacturer: ON Semiconductor / Fairchild; Max Power Dissipation: 350mW; Power Dissipation: 240mW; Transition Frequency: 50MHz; Emitter Base Voltage (VEBO): 6V; Collector Emitter Saturation Voltage: 500mV; Element Configuration: Single; hFE Min: 40; Number of Elements: 1; Resistance: 120R; Tolerance: 1%; Temperature Coefficient: 100ppm/°C; Supplier 1: Digi-Key; Supplier Part Number 1: MMBTA42FSCT-ND; Manufacturer P/N: MMBTA42; Mount: Surface Mount; Case/Package: SOT-23; Number of Pins: 3; Weight: 0.002116oz; Case Code (Imperial): 2512; Case Code (Metric): 6432; Min Operating Temperature: -55°C; Max Operating Temperature: 150°C; Collector Emitter Voltage (VCEO): 300V; Polarity: NPN; Max Collector Current: 500mA; Collector Emitter Breakdown Voltage: 300V; Collector Base Voltage (VCBO): 300V; Voltage Rating (DC): 300V; Current Rating: 500mA; Package Quantity: 1; Frequency: 50MHz; Gain Bandwidth Product: 50MHz; Max Breakdown Voltage: 300V; Max Frequency: 50MHz; Voltage: 300V; Current: 500mA; Composition: Thick Film; Length: 0.25inch; Height: 0.25inch; Width: 0.25inch; Radiation Hardening: No; Lead Free: Lead Free; REACH SVHC: No SVHC; ComponentLink1URL: https://media.digikey.com/pdf/Data%20Sheets/Fairchild%20PDFs/MMBTA42.pdf?src-supplier=Digi-Key; ComponentLink1Description: https://media.digikey.com/pdf/Data%20Sheets/Fairchild%20PDFs/MMBTA42.pdf?src-supplier=Digi-Key; ComponentLink2URL: https://www.fairchildsemi.com/package-drawings/MA/MA03B.pdf?src-supplier=Digi-Key; ComponentLink2Description: https://www.fairchildsemi.com/package-drawings/MA/MA03B.pdf?src-supplier=Digi-Key; ComponentLink3URL: http://www.fairchildsemi.com/ds/MM/MMBTA42.pdf?src-supplier=Future+Electronics; ComponentLink3Description: http://www.fairchildsemi.com/ds/MM/MMBTA42.pdf?src-supplier=Future+Electronics; ComponentLink4URL: https://www.fairchildsemi.com/datasheets/PZ/PZTA42.pdf?src-supplier=Avnet; ComponentLink4Description: https://www.fairchildsemi.com/datasheets/PZ/PZTA42.pdf?src-supplier=Avnet; ComponentLink5URL: https://www.verical.com/server-webapp/html/getDatasheet?partID=115088&src-supplier=Verical; ComponentLink5Description: https://www.verical.com/server-webapp/html/getDatasheet?partID=115088&src-supplier=Verical; ComponentLink6URL: http://www.jameco.com/Jameco/Products/ProdDS/214885.pdf?src-supplier=Jameco; ComponentLink6Description: http://www.jameco.com/Jameco/Products/ProdDS/214885.pdf?src-supplier=Jameco; ComponentLink7URL: http://www.farnell.com/datasheets/1881027.pdf?src-supplier=Element14; ComponentLink7Description: http://www.farnell.com/datasheets/1881027.pdf?src-supplier=Element14; ComponentLink8URL: http://www.mouser.com/ds/2/149/MMBTA42-196122.pdf?src-supplier=Mouser; ComponentLink8Description: http://www.mouser.com/ds/2/149/MMBTA42-196122.pdf?src-supplier=Mouser; ComponentLink9URL: http://www.fairchildsemi.com/ds/PZ/PZTA42.pdf?src-supplier=Avnet+Europe; ComponentLink9Description: http://www.fairchildsemi.com/ds/PZ/PZTA42.pdf?src-supplier=Avnet+Europe
footprint SOT23 (SOT23, 3-Leads, Body 2.9x1.3mm, Pitch 0.95mm, Lead Span 2.5mm, IPC Med Density)
pins: 1 B, 2 E, 3 C

## MMBTA92
designator Q?
TRANS PNP 300V 0.5A SOT-23; Manufacturer: ON Semiconductor / Fairchild; Max Power Dissipation: 350mW; Collector Base Voltage (VCBO): -300V; Emitter Base Voltage (VEBO): -5V; Max Collector Current: 500mA; Transition Frequency: 50MHz; Element Configuration: Single; Collector Emitter Saturation Voltage: 500mV; hFE Min: 40; Number of Elements: 1; Current Rating: -500mA; Supplier 1: Digi-Key; Supplier Part Number 1: MMBTA92FSCT-ND; Mount: Surface Mount; Case/Package: SOT-23; Number of Pins: 3; Weight: 0.03g; Min Operating Temperature: -65°C; Max Operating Temperature: 150°C; Collector Emitter Voltage (VCEO): 300V; Polarity: PNP; Collector Emitter Breakdown Voltage: 300V; Package Quantity: 3000; Power Dissipation: 350mW; Gain Bandwidth Product: 50MHz; Frequency: 50MHz; Max Breakdown Voltage: 300V; Voltage Rating (DC): -300V; Length: 0.25inch; Height: 0.25inch; Width: 0.25inch; Radiation Hardening: No; Lead Free: Lead Free; REACH SVHC: No SVHC; ComponentLink2URL: http://www.fairchildsemi.com/ds/MM/MMBTA92.pdf; ComponentLink2Description: Datasheet; Manufacturer P/N: MMBTA92
footprint SOT23 (SOT23, 3-Leads, Body 2.9x1.3mm, Pitch 0.95mm, Lead Span 2.5mm, IPC Med Density)
pins: 1 B, 2 E, 3 C

## PMR400UN
designator Q??  (value not drawn)
MOSFET N-CH 30V 0.8A SOT416; Manufacturer: NXP Semiconductors; Manufacturer P/N: PMR400UN,115; FET Type: MOSFET N-Channel, Metal Oxide; FET Feature: Logic Level Gate; Current - Continuous Drain (Id) @ 25° C: 800mA; Rds On (Max) @ Id, Vgs: 480 mOhm @ 200mA, 4.5V; Vgs(th) (Max) @ Id: 1V @ 250µA; Gate Charge (Qg) @ Vgs: 0.89nC @ 4.5V; Input Capacitance (Ciss) @ Vds: 43pF @ 25V; Power - Max: 530mW; Supplier 1: Digi-Key; Supplier Part Number 1: 568-7438-1-ND; RoHS: RoHS Compliant; Drain to Source Voltage (Vdss): 30V; Package / Case: SC-75, SOT-416; ComponentLink1URL: http://www.nxp.com/documents/data_sheet/PMR400UN.pdf; ComponentLink1Description: Datasheet; Supplier 2: Digi-Key; Supplier Part Number 2: 568-7438-2-ND
footprint SOT416 (SOT416 (SC-75) .9mm x 1.8mm)
pins: 1 G, 2 S, 3 D

## Res_0.2_OHM_5W
designator R??, comment 0.2   5W
RES 0.2 OHM 5W 5%; Manufacturer: Vishay BCcomponents; Manufacturer P/N: AC05000002007JAC00; Resistance: 200mR; Voltage Rating: 1V; Temperature Coefficient: -80ppm/°C; Lead Diameter: 0.8mm; Supplier 1: Digi-Key; Supplier Part Number 1: PPC5W.20CT-ND; Case/Package: Axial; Number of Pins: 2; Contact Plating: Tin; Min Operating Temperature: -40°C; Max Operating Temperature: 275°C; Tolerance: 5%; Power Rating: 5W; Package Quantity: 1; Composition: Wirewound; Termination: Axial; Max Power Dissipation: 5W; Voltage Rating (DC): 1V; Features: Flame Retardant Coating; Diameter: 7.5mm; Length: 18mm; Width: 7.49mm; Radiation Hardening: No; REACH SVHC: Unknown; ComponentLink1URL: http://www.vishay.com/docs/28730/acac-at.pdf; ComponentLink1Description: http://www.vishay.com/docs/28730/acac-at.pdf; ComponentLink2URL: http://www.vishay.com/docs/28730/acseries.pdf; ComponentLink2Description: http://www.vishay.com/docs/28730/acseries.pdf
footprint RES_AC05 (Resistor, Axial, 5W)
footprint RES_AC05 - Verticle (Resistor, Axial, 5W)
pins: 1, 2